# Altium schematic symbol library Schlib1.SchLib: 20 symbols
Pins are listed as number, name and electrical type; pins without a type are passive.

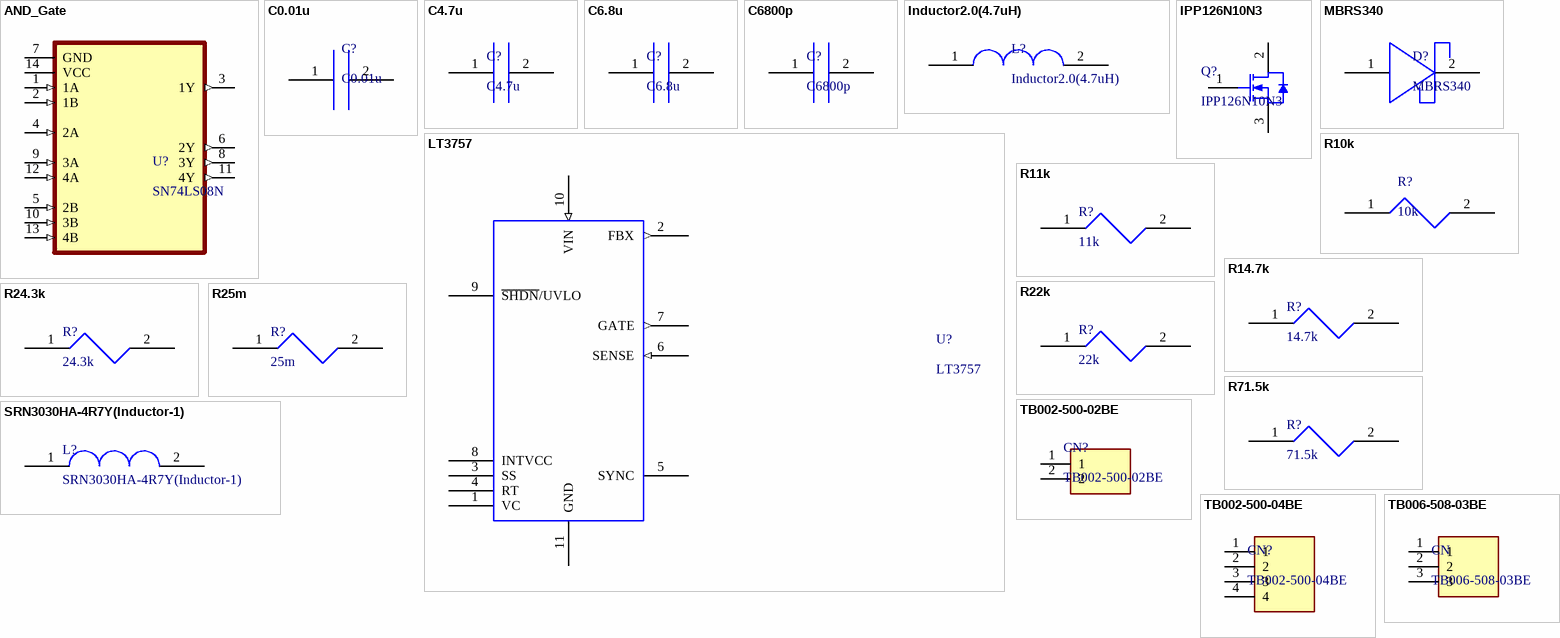
[diagram p0: symbols AND_Gate to TB006-508-03BE]

## AND_Gate
designator U?, comment SN74LS08N
footprint AND_Gate
pins: 1 1A (in), 2 1B (in), 3 1Y (out), 4 2A (in), 5 2B (in), 6 2Y (out), 7 GND (power), 8 3Y (out), 9 3A (in), 10 3B (in), 11 4Y (out), 12 4A (in), 13 4B (in), 14 VCC (power)

## C0.01u
designator C?
SMD 0.01uF Capacitor
footprint C0.01u (Chip Capacitor, 2-Leads, Body 3.30x1.60mm, IPC Medium Density)
pins: 1, 2

## C4.7u
designator C?
footprint C4.7u (Chip Capacitor, 2-Leads, Body 3.25x2.50mm, IPC Medium Density)
pins: 1, 2

## C6.8u
designator C?
footprint C6.8u (Aluminum Electrolytic Capacitor, Body 10.30x10.30x14.00mm, IPC Low Density)
pins: 1, 2

## C6800p
designator C?
footprint C6800p (Chip Capacitor, 2-Leads, Body 3.20x2.50mm, IPC Medium Density)
pins: 1, 2

## Inductor2.0(4.7uH)
designator L?
footprint Inductor2.0(4.7uH) (Molded Inductor, 2-Leads, Body 6.40x6.60mm, IPC Medium Density)
pins: 1, 2

## IPP126N10N3
designator Q?
footprint IPP126N10N3
pins: 1 GATE, 2 DRAIN, 3 SOURCE

## LT3757
designator U?
footprint LT3757
pins: 1 VC, 2 FBX (out), 3 SS, 4 RT, 5 SYNC, 6 SENSE (in), 7 GATE (out), 8 INTVCC, 9 ~{SHDN}/UVLO, 10 VIN (in), 11 GND

## MBRS340
designator D?
footprint MBRS340 (Molded Diode, 2-Leads, Body 6.86x5.91mm, IPC Medium Density)
pins: 1, 2

## R10k
designator R?, comment 10k
SMD 10k Resistor
footprint R10k (Chip Resistor, 2-Leads, Body 3.20x1.60mm, IPC Medium Density)
pins: 1, 2

## R11k
designator R?, comment 11k
footprint R11k
pins: 1, 2

## R14.7k
designator R?, comment 14.7k
footprint R14.7k (Chip Resistor, 2-Leads, Body 1.55x0.80mm, IPC Medium Density)
pins: 1, 2

## R22k
designator R?, comment 22k
footprint R22k (Chip Resistor, 2-Leads, Body 0.60x0.30mm, IPC Medium Density)
pins: 1, 2

## R24.3k
designator R?, comment 24.3k
footprint R24.3k (Chip Resistor, 2-Leads, Body 1.60x0.80mm, IPC Medium Density)
pins: 1, 2

## R25m
designator R?, comment 25m
footprint R25m (Chip Resistor, 2-Leads, Body 2.00x1.25mm, IPC Medium Density)
pins: 1, 2

## R71.5k
designator R?, comment 71.5k
footprint R71.5k (Chip Resistor, 2-Leads, Body 2.00x1.25mm, IPC Medium Density)
pins: 1, 2

## SRN3030HA-4R7Y(Inductor-1)
designator L?
footprint SRN3030HA-4R7Y(Inductor-1) (Chip Inductor, 2-Leads, Body 3.00x3.00mm, IPC Medium Density)
pins: 1, 2

## TB002-500-02BE
designator CN?
footprint TB002-500-02BE
pins: 1, 2

## TB002-500-04BE
designator CN?
footprint TB002-500-04BE
pins: 1, 2, 3, 4

## TB006-508-03BE
designator CN
footprint TB006-508-03BE
pins: 1, 2, 3